# Altium integrated library Vishay Communication Transceiver.IntLib: 3 symbols
Pins are listed as number, name and electrical type; pins without a type are passive.

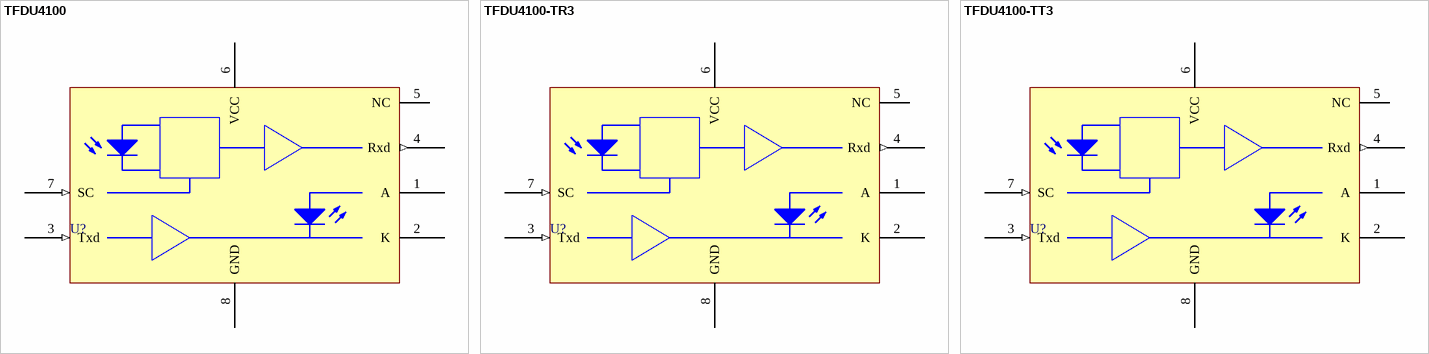
[diagram p0: symbols TFDU4100 to TFDU4100-TT3]

## TFDU4100
designator U?
2.7 V to 5.5 V Serial Infrared Transceiver SIR, 115.2 kbit/s, Baby Face (Universal), Side or Top Mount; Published: 6-Jun-2005; DatasheetDocument: Rev. 1.4, Dec-2004; PackageDocument: Dec-2004; PackageReference: TFDU4100; Publisher: Altium Limited; ComponentLink1Description: Manufacturer Link; ComponentLink1URL: http://www.vishay.com/ir-transceivers/; ComponentLink2Description: Datasheet; ComponentLink2URL: http://www.vishay.com/docs/82514/82514.pdf
footprint TFDU4100 (IrDA Transceiver; SM; 8 Leads; Body 10.1 x 4.02 x4.70 (LxWxH max))
pins: 1 A (power) "IRED Anode, should be externally connected to VCC2 through a current control resistor", 2 K "IRED Cathode, internally connected to driver transistor", 3 Txd (in) "Transmit Data Input", 4 Rxd (out) "Received Data Output, Open Collector. No external pull-up or pull-down resistor required. Output data invalid during transmission.", 5 NC "No internal connection", 6 VCC (power) "Supply Voltage", 7 SC (in) "Sensitivity control", 8 GND (power) "Ground"

## TFDU4100-TR3
designator U?
2.7 V to 5.5 V Serial Infrared Transceiver SIR, 115.2 kbit/s, Baby Face (Universal), Side Mount; Published: 6-Jun-2005; DatasheetDocument: Rev. 1.4, Dec-2004; PackageDocument: Dec-2004; PackageReference: TFDU4100H; Publisher: Altium Limited; ComponentLink1Description: Manufacturer Link; ComponentLink1URL: http://www.vishay.com/ir-transceivers/; ComponentLink2Description: Datasheet; ComponentLink2URL: http://www.vishay.com/docs/82514/82514.pdf
footprint TFDU4100H (IrDA Transceiver; SM; Right-Angle Mount; 8 Leads; Body 10.1 x 4.70 x 4.02 (LxWxH max))
pins: 1 A (power) "IRED Anode, should be externally connected to VCC2 through a current control resistor", 2 K "IRED Cathode, internally connected to driver transistor", 3 Txd (in) "Transmit Data Input", 4 Rxd (out) "Received Data Output, Open Collector. No external pull-up or pull-down resistor required. Output data invalid during transmission.", 5 NC "No internal connection", 6 VCC (power) "Supply Voltage", 7 SC (in) "Sensitivity control", 8 GND (power) "Ground"

## TFDU4100-TT3
designator U?
2.7 V to 5.5 V Serial Infrared Transceiver SIR, 115.2 kbit/s, Baby Face (Universal), Top Mount; Published: 6-Jun-2005; DatasheetDocument: Rev. 1.4, Dec-2004; PackageDocument: Dec-2004; PackageReference: TFDU4100V; Publisher: Altium Limited; ComponentLink1Description: Manufacturer Link; ComponentLink1URL: http://www.vishay.com/ir-transceivers/; ComponentLink2Description: Datasheet; ComponentLink2URL: http://www.vishay.com/docs/82514/82514.pdf
footprint TFDU4100V (IrDA Transceiver; SM; Vertical Mount; 8 Leads; Body 10.1 x 4.02 x4.70 (LxWxH max))
pins: 1 A (power) "IRED Anode, should be externally connected to VCC2 through a current control resistor", 2 K "IRED Cathode, internally connected to driver transistor", 3 Txd (in) "Transmit Data Input", 4 Rxd (out) "Received Data Output, Open Collector. No external pull-up or pull-down resistor required. Output data invalid during transmission.", 5 NC "No internal connection", 6 VCC (power) "Supply Voltage", 7 SC (in) "Sensitivity control", 8 GND (power) "Ground"